# Altium schematic symbol library SW ROT SPTT 0.02A 20VDC.SchLib: 2 symbols
Pins are listed as number, name and electrical type; pins without a type are passive.

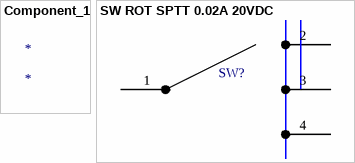
[diagram p0: symbols Component_1 to SW ROT SPTT 0.02A 20VDC]

## Component_1
designator *

## SW ROT SPTT 0.02A 20VDC
designator SW?  (value not drawn)
3 pole rotary switch; ComponentLink1URL: https://www.ckswitches.com/media/1351/r.pdf?src-supplier=Digi-Key; ComponentLink1Description: https://www.ckswitches.com/media/1351/r.pdf?src-supplier=Digi-Key; ComponentLink2URL: http://www.ck-components.com/13380/r_31aug10.pdf/?src-supplier=Avnet; ComponentLink2Description: http://www.ck-components.com/13380/r_31aug10.pdf/?src-supplier=Avnet; ComponentLink3URL: http://www.ck-components.com/13380/r_31aug10.pdf/?src-supplier=Avnet+Europe; ComponentLink3Description: http://www.ck-components.com/13380/r_31aug10.pdf/?src-supplier=Avnet+Europe
pins: 1, 2, 3, 4